# Altium footprint library AT27C512R-70PU.PcbLib: 1 footprints
Each footprint in its own frame and in the unit in brackets; x right, y up, seen from the top. Pads: shape width x height; smd on the part's side, far side on the other; paste and mask are expansions set on the pad; w line width, h text height; cw(c..) or ccw(c..) is an arc to the next point about the centre after c.
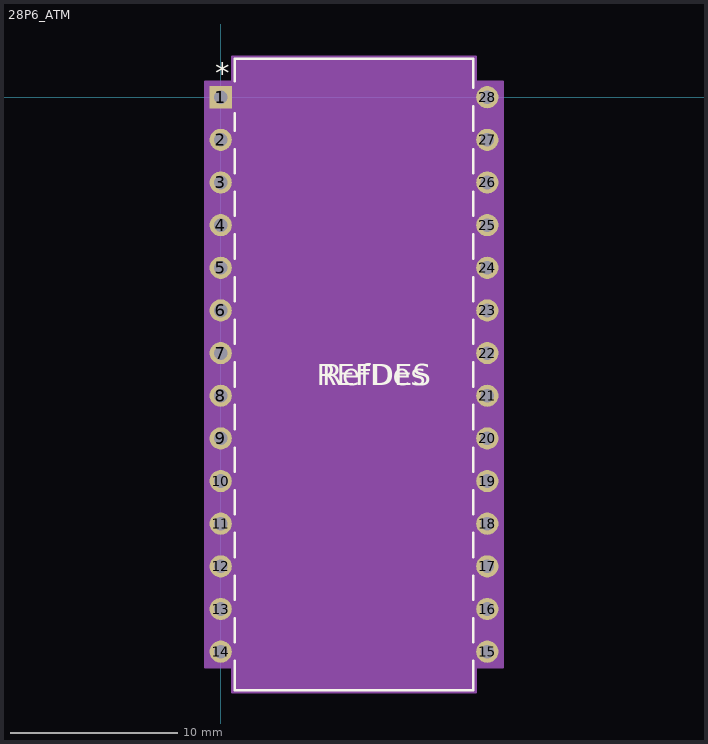
[diagram p0: the footprint, top view; thin cyan lines are the x and y axes]

## 28P6_ATM [mil]
pads (28):
  rect 52x52 / inner round 60 / far side rect 52x52 hole 32 paste-26 mask+0: 1(0,0)
  round 52 / inner round 60 / far side round 52 hole 32 paste-26 mask+0: 2(0,-100) 3(0,-200) 4(0,-300) 5(0,-400) 6(0,-500) 7(0,-600) 8(0,-700) 9(0,-800) 10(0,-900) 11(0,-1000) 12(0,-1100) 13(0,-1200) 14(0,-1300) 15(625,-1300) 16(625,-1200) 17(625,-1100) 18(625,-1000) 19(625,-900) 20(625,-800) 21(625,-700) 22(625,-600) 23(625,-500) 24(625,-400) 25(625,-300) 26(625,-200) 27(625,-100) 28(625,0)
Top Overlay:
  lines w6: 32.5,-1321.74 32.5,-1390 592.5,-1390 592.5,-1321.74 ; 32.5,-1278.26 32.5,-1221.74 ; 32.5,-1178.26 32.5,-1121.74 ; 32.5,-1078.26 32.5,-1021.74 ; 32.5,-978.26 32.5,-921.74 ; 32.5,-878.26 32.5,-821.74 ; 32.5,-778.26 32.5,-721.74 ; 32.5,-678.26 32.5,-621.74 ; 32.5,-578.26 32.5,-521.74 ; 32.5,-478.26 32.5,-421.74 ; 32.5,-378.26 32.5,-321.74 ; 32.5,-278.26 32.5,-221.74 ; 32.5,-178.26 32.5,-121.74 ; 32.5,-78.26 32.5,-37.37 ; 32.5,37.37 32.5,90 592.5,90 592.5,21.74 ; 592.5,-1278.26 592.5,-1221.74 ; 592.5,-1178.26 592.5,-1121.74 ; 592.5,-1078.26 592.5,-1021.74 ; 592.5,-978.26 592.5,-921.74 ; 592.5,-878.26 592.5,-821.74 ; 592.5,-778.26 592.5,-721.74 ; 592.5,-678.26 592.5,-621.74 ; 592.5,-578.26 592.5,-521.74 ; 592.5,-478.26 592.5,-421.74 ; 592.5,-378.26 592.5,-321.74 ; 592.5,-278.26 592.5,-221.74 ; 592.5,-178.26 592.5,-121.74 ; 592.5,-78.26 592.5,-21.74
  text "*" at -12.5,31 h50
  text "RefDes" at 237.5,-675 h50
  text "REFDES" at 225,-675 h50
Mechanical 13:
  lines w0: 300.5,85 ccw(c312.5,85) 324.5,85
  lines w1: -16,-1316 -16,-1284 37.5,-1284 37.5,-1316 -16,-1316 ; -16,-1216 -16,-1184 37.5,-1184 37.5,-1216 -16,-1216 ; -16,-1116 -16,-1084 37.5,-1084 37.5,-1116 -16,-1116 ; -16,-1016 -16,-984 37.5,-984 37.5,-1016 -16,-1016 ; -16,-916 -16,-884 37.5,-884 37.5,-916 -16,-916 ; -16,-816 -16,-784 37.5,-784 37.5,-816 -16,-816 ; -16,-716 -16,-684 37.5,-684 37.5,-716 -16,-716 ; -16,-616 -16,-584 37.5,-584 37.5,-616 -16,-616 ; -16,-516 -16,-484 37.5,-484 37.5,-516 -16,-516 ; -16,-416 -16,-384 37.5,-384 37.5,-416 -16,-416 ; -16,-316 -16,-284 37.5,-284 37.5,-316 -16,-316 ; -16,-216 -16,-184 37.5,-184 37.5,-216 -16,-216 ; -16,-116 -16,-84 37.5,-84 37.5,-116 -16,-116 ; -16,-16 -16,16 37.5,16 37.5,-16 -16,-16 ; 37.5,-1385 587.5,-1385 587.5,85 37.5,85 37.5,-1385 ; 587.5,-1316 587.5,-1284 641,-1284 641,-1316 587.5,-1316 ; 587.5,-1216 587.5,-1184 641,-1184 641,-1216 587.5,-1216 ; 587.5,-1116 587.5,-1084 641,-1084 641,-1116 587.5,-1116 ; 587.5,-1016 587.5,-984 641,-984 641,-1016 587.5,-1016 ; 587.5,-916 587.5,-884 641,-884 641,-916 587.5,-916 ; 587.5,-816 587.5,-784 641,-784 641,-816 587.5,-816 ; 587.5,-716 587.5,-684 641,-684 641,-716 587.5,-716 ; 587.5,-616 587.5,-584 641,-584 641,-616 587.5,-616 ; 587.5,-516 587.5,-484 641,-484 641,-516 587.5,-516 ; 587.5,-416 587.5,-384 641,-384 641,-416 587.5,-416 ; 587.5,-316 587.5,-284 641,-284 641,-316 587.5,-316 ; 587.5,-216 587.5,-184 641,-184 641,-216 587.5,-216 ; 587.5,-116 587.5,-84 641,-84 641,-116 587.5,-116 ; 587.5,-16 587.5,16 641,16 641,-16 587.5,-16
  text "*" at 35,-25 h50
  text "RefDes2" at 225,-675 h50
Mechanical 15:
  region: 597.5,-1336 661,-1336 661,36 597.5,36 597.5,95 27.5,95 27.5,36 -36,36 -36,-1336 27.5,-1336 27.5,-1395 597.5,-1395
  lines w6: -36,-1336 -36,36 27.5,36 27.5,95 597.5,95 597.5,36 661,36 661,-1336 597.5,-1336 597.5,-1395 27.5,-1395 27.5,-1336 -36,-1336
3D body "28P6_ATM.step": height 195.12, standoff -100, extent -5,-1385 640,85